# Altium footprint library elvis_lib.PcbLib: 50 footprints (part 4 of 4)
Each footprint in its own frame and in the unit in brackets; x right, y up, seen from the top. Pads: shape width x height; smd on the part's side, far side on the other; paste and mask are expansions set on the pad; w line width, h text height; cw(c..) or ccw(c..) is an arc to the next point about the centre after c.
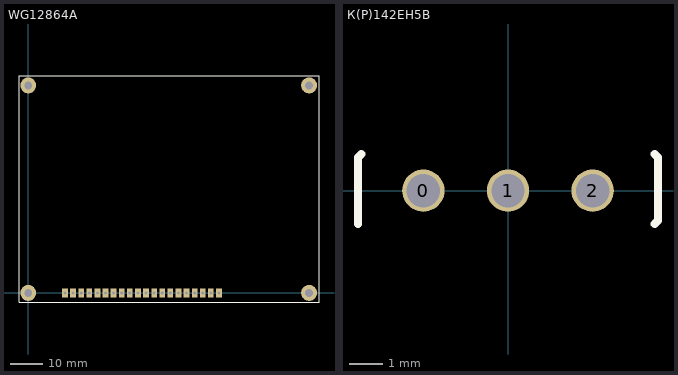
[diagram p3: the footprints below, top view; thin cyan lines are the x and y axes]

## WG12864A [mm]
pads (24):
  rect 1.8x2.75 hole 1 paste+0: 0(59.76,0)
  rect 1.8x2.75 hole 1: 1(57.22,0) 2(54.68,0) 3(52.14,0) 4(49.6,0) 5(47.06,0) 6(44.52,0) 7(41.98,0) 8(39.44,0) 9(36.9,0) 10(34.36,0) 11(31.82,0) 12(29.28,0) 13(26.74,0) 14(24.2,0) 15(21.66,0) 16(19.12,0) 17(16.58,0) 18(14.04,0) 19(11.5,0)
  round 5 hole 2.5 unplated: hole(0,65) hole4(0,0)
  round 5 hole 2.5: hole1(88,65) hole2(88,0)
Top Overlay:
  lines w0.254: -2.9,-3 -2.9,68.1 91.1,68.1 91.1,-3 -2.9,-3

## К(Р)142ЕН5В [mm]
pads (3):
  round 1.27 / inner oval 0.4x0.3 / far side round 1.27 hole 1 mask+0.05: 0(-2.54,0) 1(0,0) 2(2.54,0)
Top Overlay:
  lines w0.254: -4.5,-1 -4.5,1 -4.4,1.1 ; 4.4,-1 4.5,-0.9 4.5,1 4.4,1.1